# Altium schematic symbol library ALTAIR_PD_Regulators.SchLib: 4 symbols
Pins are listed as number, name and electrical type; pins without a type are passive.

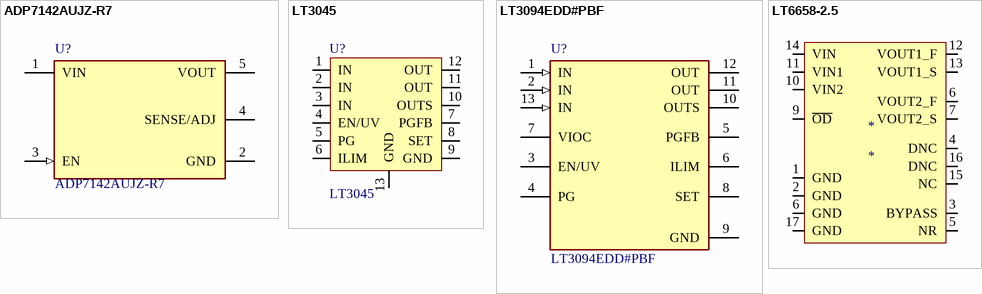
[diagram p0: symbols ADP7142AUJZ-R7 to LT6658-2.5]

## ADP7142AUJZ-R7
designator U?
1.2-40V 200mA Low Noise CMOS LDO Adjustable Linear Regulator TSOT23; Manufacturer: Analog Devices; Nominal Supply Current: 50-180uA; Output Type: AdjustableProgrammable; Max Supply Voltage: 40V; Number Of Outputs: 1; Dropout Voltage: 200mV; Output Voltage: 1.2-5V; Min Supply Voltage: 2.7V; Max Junction Temp: +150°C; Accuracy Percentage: 0.8%; Ambient Temperature Range Low: -40°C; ComponentLink2Description: Datasheet; Digikey Description: IC REG LIN POS ADJ 200MA TSOT23; Device Class L1: Integrated Circuits (ICs); Mouser Description: LDO Regulator Pos 1.5V to 5V 0.2A 5-Pin TSOT-23 T/R; Height: 1mm; Temperature Range Low: -40°C; Output Current: 200mA; Device Class L3: Voltage Regulators - Linear; Octopart: https://octopart.com/adp7142aujz-r7-analog+devices-38928114; Category: IC; Manufacturer Part Number: ADP7142AUJZ-R7; ComponentLink2URL: https://www.analog.com/media/en/technical-documentation/data-sheets/ADP7142.pdf; Device Class L2: Power Management ICs; Package: UJ-5; Automotive: No; Lead Free: Yes; Ambient Temperature Range High: +125°C; Temperature: -40°C to +125°C; Temperature Range High: +125°C; RoHS: TRUE
footprint SOT23-5 HIGH DENSITY AD (FP-UJ-5-IPC_C)
pins: 1 VIN (power), 2 GND (power), 3 EN (in), 4 SENSE/ADJ, 5 VOUT

## LT3045
designator U?
20V 500mA Ultralow Noise Ultrahigh PSRR Adjustable Linear Regulator 260V Dropout MSOP-12; Manufacturer 1: Analog Devices / Linear Technology; Manufacturer Part Number 1: LT3045EMSE#PBF; Output Voltage: 15V; Dropout Voltage: 260mV; Number of Regulators: 1; Min Current Limit: 570mA; RoHS: Yes; Stock 1: 1588; Case/Package: MSOP; Min Operating Temperature: -40°C; Max Operating Temperature: 125°C; Output Current: 500mA; ComponentLink1URL: http://www.farnell.com/datasheets/2163219.pdf?src-supplier=Farnell; ComponentLink1Description: http://www.farnell.com/datasheets/2163219.pdf?src-supplier=Farnell; ComponentLink2URL: http://www.linear.com/docs/55649?src-supplier=Digi-Key; ComponentLink2Description: http://www.linear.com/docs/55649?src-supplier=Digi-Key; Supplier 1: Digi-Key; Supplier Part Number 1: LT3045EMSE#PBF-ND
footprint 12-TSOP 0.65MM PITCH 3MM WIDTH EP IPC MID DENSITY (TSOP65P490X110_HS-13N)
pins: 1 IN, 2 IN, 3 IN, 4 EN/UV, 5 PG, 6 ILIM, 7 PGFB, 8 SET, 9 GND, 10 OUTS, 11 OUT, 12 OUT, 13 GND

## LT3094EDD#PBF
designator U?
-20V 500mA Ultralow Noise Ultrahigh PSRR Adjustable Negative Linear Regulator 12DFN; RoHS Compliant: Yes
footprint 12DFN 3x3MM EP IPC MID DENSITY (Exposed pad, Analog Devices logo)
pins: 1 IN (in), 2 IN (in), 3 EN/UV, 4 PG, 5 PGFB, 6 ILIM, 7 VIOC, 8 SET, 9 GND (power), 10 OUTS (power), 11 OUT (power), 12 OUT (power), 13 IN (in)

## LT6658-2.5
designator *
2.5-6V 50-200mA High-Precision Regulator/Reference Hybrid MSOP-16-EP or 16-DFN; Supplier 1: Mouser; Supplier Part Number 1: 584-LT6658AIDE2.5PBF
footprint 16DFN 4X3MM EP NON-IPC LINTECH
pins: 1 GND, 2 GND, 3 BYPASS, 4 DNC, 5 NR, 6 GND, 6 VOUT2_F, 7 VOUT2_S, 9 ~{OD}, 10 VIN2, 11 VIN1, 12 VOUT1_F, 13 VOUT1_S, 14 VIN, 15 NC, 16 DNC, 17 GND